# Altium footprint library pcb lib.PcbLib: 160 footprints (part 5 of 10)
Each footprint in its own frame and in the unit in brackets; x right, y up, seen from the top. Pads: shape width x height; smd on the part's side, far side on the other; paste and mask are expansions set on the pad; w line width, h text height; cw(c..) or ccw(c..) is an arc to the next point about the centre after c.
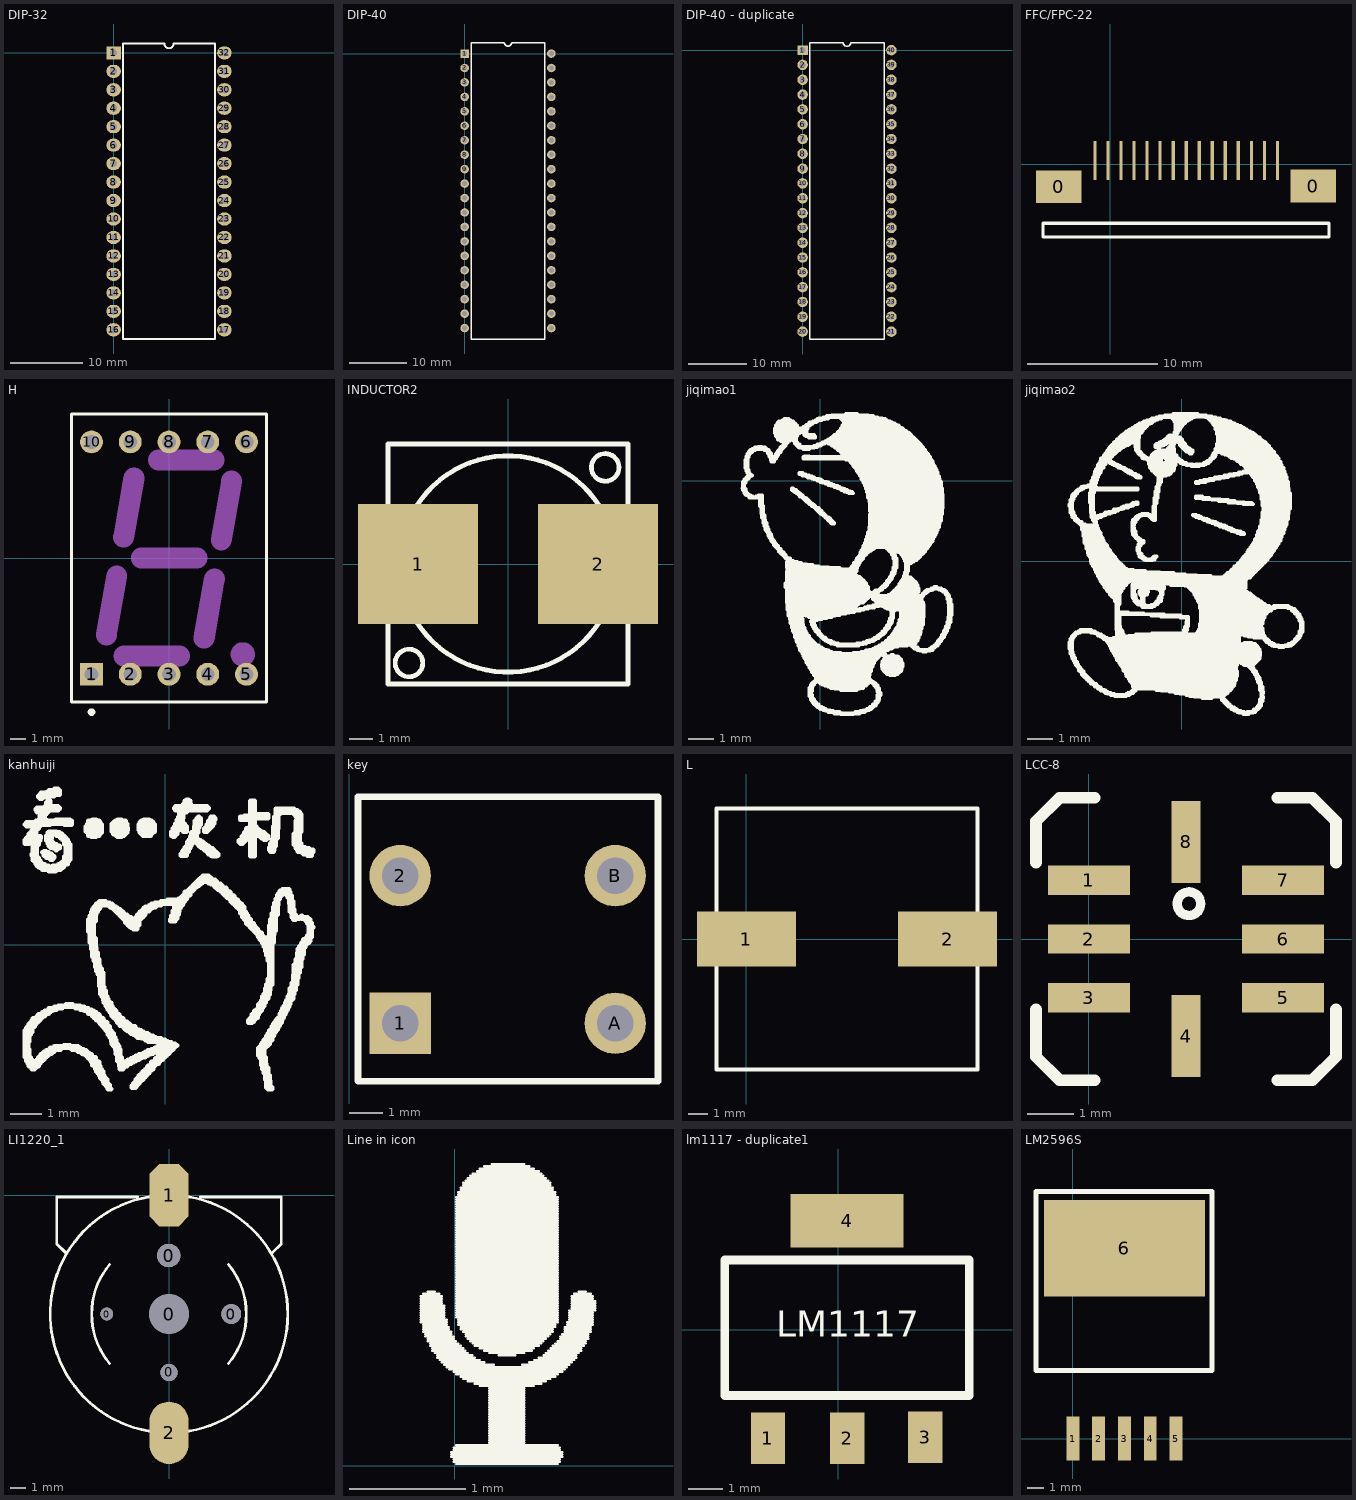
[diagram p4: the footprints below, top view; thin cyan lines are the x and y axes]

## DIP-32 [mm]
pads (32):
  rect 2x1.8 hole 1: 1(0,0)
  oval 2x1.8 hole 1: 2(0,-2.54) 3(0,-5.08) 4(0,-7.62) 5(0,-10.16) 6(0,-12.7) 7(0,-15.24) 8(0,-17.78) 9(0,-20.32) 10(0,-22.86) 11(0,-25.4) 12(0,-27.94) 13(0,-30.48) 14(0,-33.02) 15(0,-35.56) 16(0,-38.1) 17(15.24,-38.1) 18(15.24,-35.56) 19(15.24,-33.02) 20(15.24,-30.48) 21(15.24,-27.94) 22(15.24,-25.4) 23(15.24,-22.86) 24(15.24,-20.32) 25(15.24,-17.78) 26(15.24,-15.24) 27(15.24,-12.7) 28(15.24,-10.16) 29(15.24,-7.62) 30(15.24,-5.08) 31(15.24,-2.54) 32(15.24,0)
Top Overlay:
  lines w0.254: 1.27,-39.37 13.97,-39.37 13.97,1.27 8.255,1.27 cw(c7.62,1.27) 6.985,1.27 1.27,1.27 1.27,-39.37

## DIP-40 [mm]
pads (40):
  rect 1.5x1.5 hole 0.9: 1(0,0)
  round 1.5 hole 0.9: 2(0,-2.54) 3(0,-5.08) 4(0,-7.62) 5(0,-10.16) 6(0,-12.7) 7(0,-15.24) 8(0,-17.78) 9(0,-20.32) 10(0,-22.86) 11(0,-25.4) 12(0,-27.94) 13(0,-30.48) 14(0,-33.02) 15(0,-35.56) 16(0,-38.1) 17(0,-40.64) 18(0,-43.18) 19(0,-45.72) 20(0,-48.26) 21(15.24,-48.26) 22(15.24,-45.72) 23(15.24,-43.18) 24(15.24,-40.64) 25(15.24,-38.1) 26(15.24,-35.56) 27(15.24,-33.02) 28(15.24,-30.48) 29(15.24,-27.94) 30(15.24,-25.4) 31(15.24,-22.86) 32(15.24,-20.32) 33(15.24,-17.78) 34(15.24,-15.24) 35(15.24,-12.7) 36(15.24,-10.16) 37(15.24,-7.62) 38(15.24,-5.08) 39(15.24,-2.54) 40(15.24,0)
Top Overlay:
  lines w0.25: 1.17,-50.18 14.07,-50.18 14.07,1.92 8.255,1.92 cw(c7.62,1.92) 6.985,1.92 1.17,1.92 1.17,-50.18

## DIP-40 - duplicate [mm]
pads (40):
  rect 1.8x1.6 hole 1: 1(0,0)
  round 1.8 hole 1: 2(0,-2.54) 3(0,-5.08) 4(0,-7.62) 5(0,-10.16) 6(0,-12.7) 7(0,-15.24) 8(0,-17.78) 9(0,-20.32) 10(0,-22.86) 11(0,-25.4) 12(0,-27.94) 13(0,-30.48) 14(0,-33.02) 15(0,-35.56) 16(0,-38.1) 17(0,-40.64) 18(0,-43.18) 19(0,-45.72) 20(0,-48.26) 21(15.24,-48.26) 22(15.24,-45.72) 23(15.24,-43.18) 24(15.24,-40.64) 25(15.24,-38.1) 26(15.24,-35.56) 27(15.24,-33.02) 28(15.24,-30.48) 29(15.24,-27.94) 30(15.24,-25.4) 31(15.24,-22.86) 32(15.24,-20.32) 33(15.24,-17.78) 34(15.24,-15.24) 35(15.24,-12.7) 36(15.24,-10.16) 37(15.24,-7.62) 38(15.24,-5.08) 39(15.24,-2.54) 40(15.24,0)
Top Overlay:
  lines w0.254: 1.27,-49.53 13.97,-49.53 13.97,1.27 8.255,1.27 cw(c7.62,1.27) 6.985,1.27 1.27,1.27 1.27,-49.53

## FFC/FPC-22 [mm]
pads (17):
  rect 3.5x2.5 smd: 0(-3.962,-1.702) 0(15.545,-1.651)
  rect 0.25x3 smd: 1(-1.194,0.305) 2(-0.194,0.305) 3(0.806,0.305) 4(1.806,0.305) 5(2.806,0.305) 6(3.806,0.305) 7(4.806,0.305) 8(5.806,0.305) 9(6.806,0.305) 10(7.806,0.305) 11(8.806,0.305) 12(9.806,0.305) 13(10.806,0.305) 14(11.806,0.305) 15(12.806,0.305)
Top Overlay:
  lines w0.254: -5.182,-5.565 16.764,-5.565 16.764,-4.496 -5.182,-4.496 -5.182,-5.565

## H [mm] "LED, 7-Segment Display, 14.2 mm, RHD; 10 Leads; Row Space 15.24 mm; Pitch 2.54 mm"
height 8.25
pads (10):
  rect 1.5x1.5 hole 0.9: 1(-5.08,-7.62)
  round 1.5 hole 0.9: 2(-2.54,-7.62) 3(0,-7.62) 4(2.54,-7.62) 5(5.08,-7.62) 6(5.08,7.62) 7(2.54,7.62) 8(0,7.62) 9(-2.54,7.62) 10(-5.08,7.62)
Top Overlay:
  circle w0.25: c-5.08,-10.1 r0.125
  lines w0.2: -6.4,-9.45 -6.4,9.45 6.4,9.45 6.4,-9.45 -6.4,-9.45
Mechanical 1:
  circle w1: c4.842,-6.316 r0.296
  lines w1.37: -4.108,-5.053 -3.425,-1.17 ; -2.974,1.368 -2.293,5.255 ; -2.958,-6.429 0.692,-6.426 ; -1.821,0 1.828,0 ; -0.689,6.425 2.96,6.425 ; 2.295,-5.256 2.98,-1.371 ; 3.427,1.169 4.11,5.058

## INDUCTOR2 [mm]
pads (2):
  rect 5.08x5.08 smd: 1(-3.81,0) 2(3.81,0)
Top Overlay:
  circle w0.203: c0,0 r4.579
  circle w0.203: c-4.191,-4.191 r0.584
  circle w0.203: c4.115,4.089 r0.584
  lines w0.203: -5.08,-5.08 5.08,-5.08 5.08,5.08 -5.08,5.08 -5.08,-5.08

## jiqimao1 [mm]
Top Overlay:
  drawing of 893 lines, arcs and shapes, not listed

## jiqimao2 [mm]
Top Overlay:
  drawing of 1083 lines, arcs and shapes, not listed

## kanhuiji [mm]
Top Overlay:
  drawing of 1022 lines, arcs and shapes, not listed

## key [mm]
pads (4):
  rect 1.85x1.85 hole 1.1: 1(1.537,8.02)
  round 1.85 hole 1.1: 2(1.537,12.465) A(8.014,8.02) B(8.014,12.465)
Top Overlay:
  lines w0.2: 0.267,6.28 9.3,6.273 9.3,14.839 0.267,14.84 0.267,6.28

## L [mm]
pads (2):
  rect 5x2.8 smd: 1(0,0) 2(10.16,0)
Top Overlay:
  lines w0.203: -1.524,-6.604 11.684,-6.604 11.684,6.604 -1.524,6.604 -1.524,0 -1.524,-6.604

## LCC-8 [mil]
pads (8):
  rect 70x25 smd: 1(0,50) 2(0,0) 3(0,-50) 5(165,-50) 6(165,0) 7(165,50)
  rect 25x70 smd: 4(82.5,-82.5) 8(82.5,82.5)
Top Overlay:
  circle w8: c85,30 r10
  lines w10: -45,-60 -45,-100 -25,-120 5,-120 ; -45,65 -45,100 -25,120 5,120 ; 160,-120 190,-120 210,-100 210,-60 ; 160,120 190,120 210,100 210,65

## LI1220_1 [mm]
pads (7):
  round 0.813 hole 0.813: 0(-3.995,-7.604)
  round 1.5 hole 1.5: 0(-0.032,-3.854)
  round 1.1 hole 1.1: 0(-0.007,-11.354)
  round 2.54 hole 2.54: 0(-0.007,-7.604)
  round 1.27 hole 1.27: 0(3.981,-7.604)
  oct 2.5x4 smd: 1(-0.007,0.016)
  oval 2.5x4 smd: 2(-0.007,-15.224)
Top Overlay:
  lines w0.178: -6.632,-3.679 -7.207,-3.104 -7.207,-0.104 -2.007,-0.104 ; -3.82,-10.776 cw(c-0.007,-7.604) -3.817,-4.429 ; -0.84,-15.178 cw(c-0.007,-7.604) -0.84,-0.03 ; 0.826,-15.178 ccw(c-0.007,-7.604) 7.613,-7.604 ccw(c-0.007,-7.604) 0.826,-0.03 ; 1.993,-0.104 7.193,-0.104 7.193,-3.104 6.593,-3.704 ; 3.805,-10.776 ccw(c-0.007,-7.604) 3.808,-4.435

## Line in icon [mm]
Top Overlay:
  drawing of 188 lines, arcs and shapes, not listed

## lm1117 - duplicate1 [mm]
pads (4):
  rect 1x1.5 smd: 1(-2.043,-3.148) 2(0.256,-3.148) 3(2.53,-3.123)
  rect 3.3x1.549 smd: 4(0.254,3.175)
Top Overlay:
  lines w0.254: -3.302,-1.905 -3.302,2.032 3.81,2.032 3.81,-1.905 -3.302,-1.905
  text "LM1117" at -1.8,-0.2 h0.76

## LM2596S [mm]
pads (6):
  rect 0.8x2.7 smd: 1(0,0) 2(1.6,0) 3(3.2,0) 4(4.8,0) 5(6.4,0)
  rect 10x6 smd: 6(3.2,11.8)
Top Overlay:
  lines w0.305: -2.286,4.208 -2.286,15.333 8.636,15.333 8.636,4.208 -2.286,4.208
Bottom Paste:
  lines w0.254: 6.328,2.091 16.328,2.091 16.328,6.391 6.328,6.391 6.328,2.091
Multi-Layer:
  text "Comment" at -1.927,15.003 h0.64